# Altium schematic symbol library Schlib_ZG.SchLib: 31 symbols
Pins are listed as number, name and electrical type; pins without a type are passive.

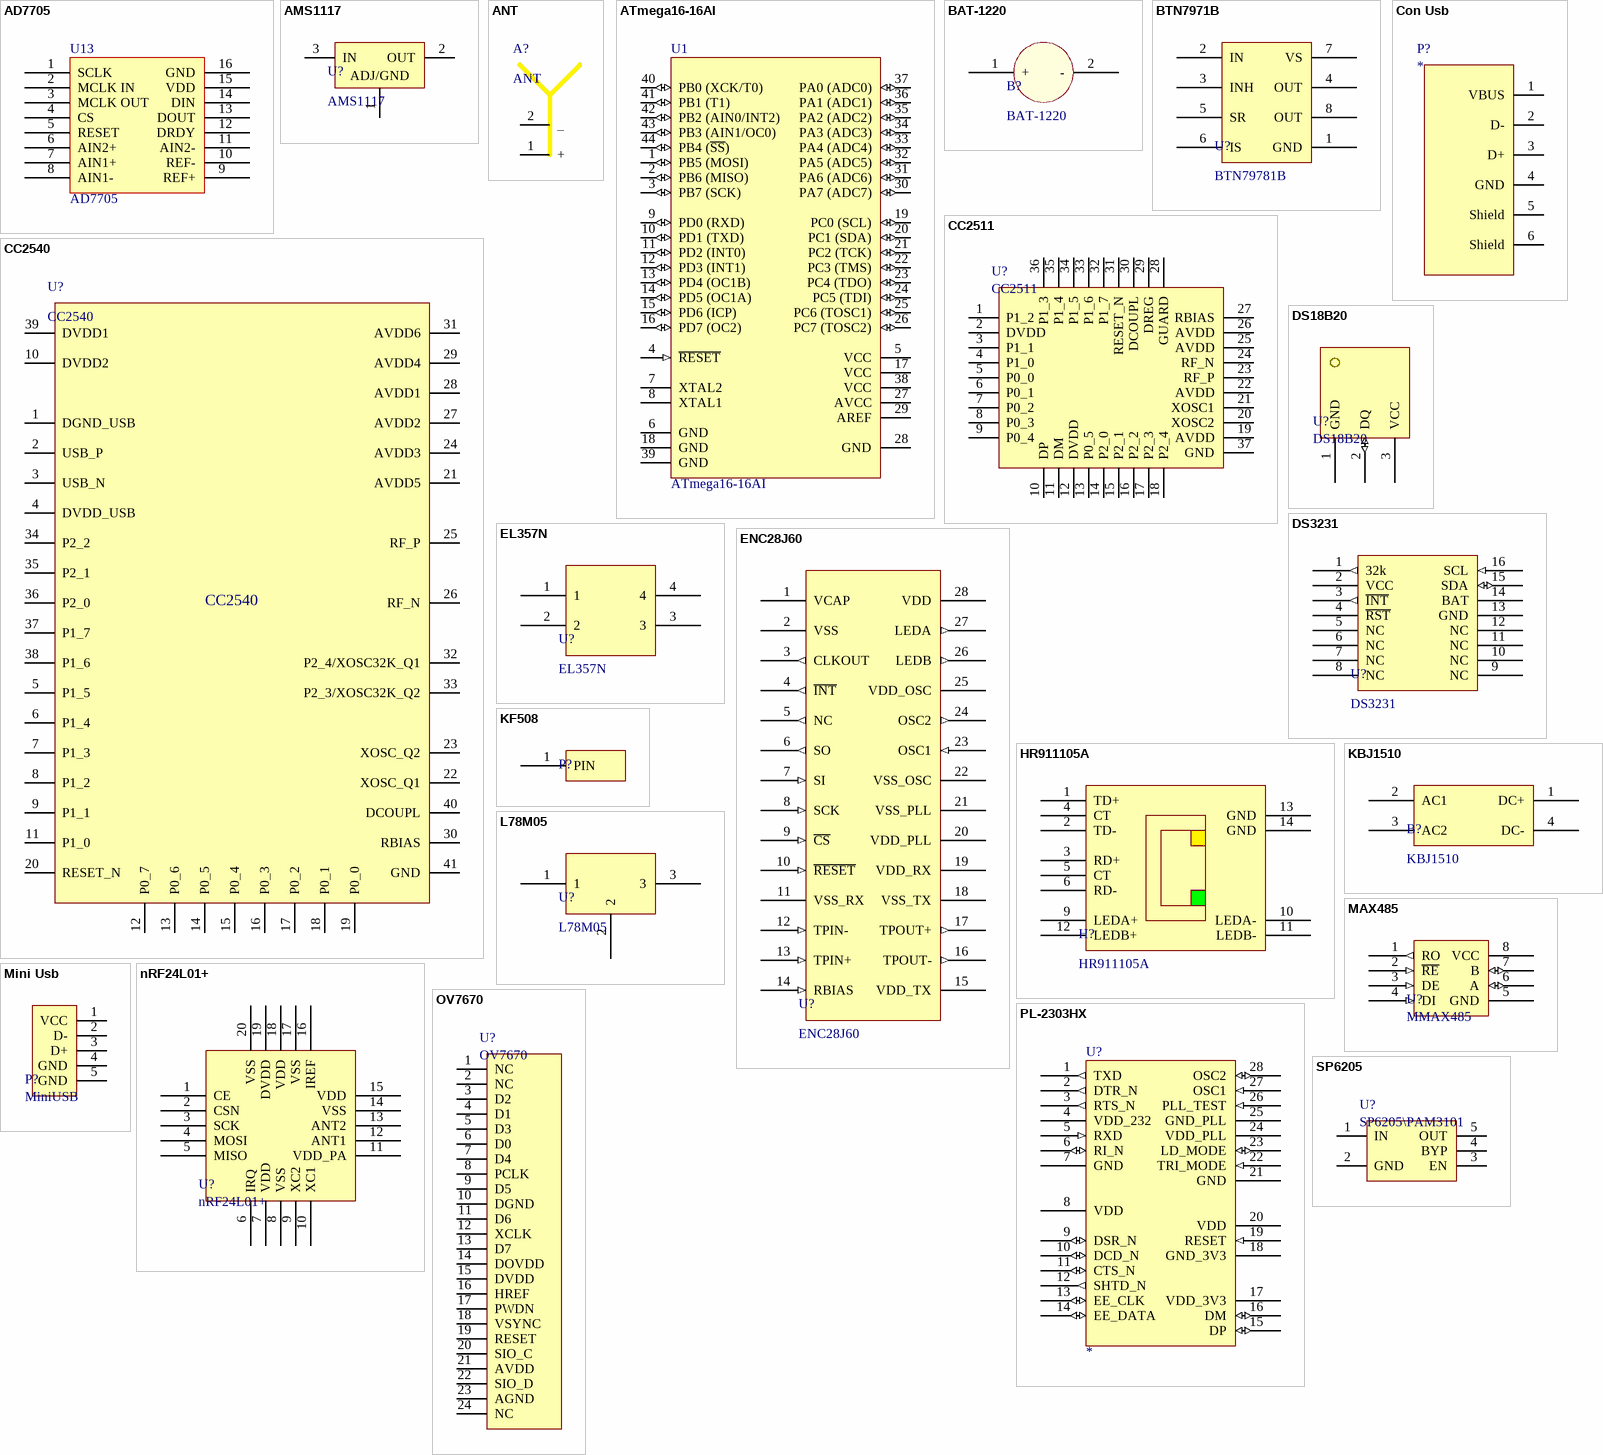
[diagram p0: symbols AD7705 to SP6205]

## AD7705
designator U13
footprint TSSOP16
pins: 1 SCLK, 2 MCLK IN, 3 MCLK OUT, 4 CS, 5 RESET, 6 AIN2+, 7 AIN1+, 8 AIN1-, 9 REF+, 10 REF-, 11 AIN2-, 12 DRDY, 13 DOUT, 14 DIN, 15 VDD, 16 GND

## AMS1117
designator U?
DC-DC Convertor 3.3V
footprint SOT223-4M (SOT223/SC73, 4-Leads, Body 6.5x3.5mm, Pitch 2.3mm, Lead Span 7mm, IPC Low Density)
pins: 1 (power), 2 OUT (power), 3 IN (power)
text: ADJ/GND

## ANT
designator A?  (no BOM)
PCB ANT
footprint IFANT
footprint MIFANT
pins: 1 +, 2 _

## ATmega16-16AI
designator U1
8-Bit AVR Microcontroller with 16K Bytes of In-System Programmable Flash Memory; Published: 17-Sep-2003; LatestRevisionDate: 13-Apr-2006; LatestRevisionNote: IPC-7351 Footprint Added.; DatasheetVersion: 2466E-AVR-10/02; PackageVersion: rev.B, Oct-2001; PackageReference: 44A; Publisher: Altium Limited; PackageDescription: 44-Pin Thin Quad Flat Pack 0.8 mm Pitch; ComponentLink1Description: Manufacturer Link; ComponentLink1URL: http://www.atmel.com; ComponentLink2Description: Datasheet; ComponentLink2URL: http://www.atmel.com/dyn/resources/prod_documents/doc2466.pdf
footprint 44A_N (Thin QFP, 44-Leads, Body 10x10mm, Pitch 0.8mm, IPC Medium Density)
footprint 44A_L (Thin QFP, 44-Leads, Body 10x10mm, Pitch 0.8mm, IPC High Density)
footprint 44A_M (Thin QFP, 44-Leads, Body 10x10mm, Pitch 0.8mm, IPC Low Density)
3D model ATMEGA16-44A (44-Pin Thin Quad Flat Pack 0.8 mm Pitch)
pins: 1 PB5 (MOSI) (io), 2 PB6 (MISO) (io), 3 PB7 (SCK) (io), 4 ~{RESET} (in), 5 VCC (power), 6 GND (power), 7 XTAL2, 8 XTAL1, 9 PD0 (RXD) (io), 10 PD1 (TXD) (io), 11 PD2 (INT0) (io), 12 PD3 (INT1) (io), 13 PD4 (OC1B) (io), 14 PD5 (OC1A) (io), 15 PD6 (ICP) (io), 16 PD7 (OC2) (io), 17 VCC (power), 18 GND (power), 19 PC0 (SCL) (io), 20 PC1 (SDA) (io), 21 PC2 (TCK) (io), 22 PC3 (TMS) (io), 23 PC4 (TDO) (io), 24 PC5 (TDI) (io), 25 PC6 (TOSC1) (io), 26 PC7 (TOSC2) (io), 27 AVCC (power), 28 GND (power), 29 AREF, 30 PA7 (ADC7) (io), 31 PA6 (ADC6) (io), 32 PA5 (ADC5) (io), 33 PA4 (ADC4) (io), 34 PA3 (ADC3) (io), 35 PA2 (ADC2) (io), 36 PA1 (ADC1) (io), 37 PA0 (ADC0) (io), 38 VCC (power), 39 GND (power), 40 PB0 (XCK/T0) (io), 41 PB1 (T1) (io), 42 PB2 (AIN0/INT2) (io), 43 PB3 (AIN1/OC0) (io), 44 PB4 (~{SS}) (io)

## BAT-1220
designator B?
Cylinder Batery 1220 3V
footprint BAT-1220
footprint BAT-2032
pins: 1 + (power), 2 - (power)

## BTN7971B
designator U?, comment BTN79781B
footprint PG-TO263-7-1
pins: 1 GND, 2 IN, 3 INH, 4 OUT, 5 SR, 6 IS, 7 VS, 8 OUT

## CC2511
designator U?
footprint QFN36
pins: 1 P1_2, 2 DVDD, 3 P1_1, 4 P1_0, 5 P0_0, 6 P0_1, 7 P0_2, 8 P0_3, 9 P0_4, 10 DP, 11 DM, 12 DVDD, 13 P0_5, 14 P2_0, 15 P2_1, 16 P2_2, 17 P2_3, 18 P2_4, 19 AVDD, 20 XOSC2, 21 XOSC1, 22 AVDD, 23 RF_P, 24 RF_N, 25 AVDD, 26 AVDD, 27 RBIAS, 28 GUARD, 29 DREG, 30 DCOUPL, 31 RESET_N, 32 P1_7, 33 P1_6, 34 P1_5, 35 P1_4, 36 P1_3, 37 GND

## CC2540
designator U?
footprint QFN40
pins: 1 DGND_USB (power), 2 USB_P (power), 3 USB_N (power), 4 DVDD_USB (power), 5 P1_5 (power), 6 P1_4 (power), 7 P1_3 (power), 8 P1_2 (power), 9 P1_1 (power), 10 DVDD2 (power), 11 P1_0 (power), 12 P0_7 (power), 13 P0_6 (power), 14 P0_5 (power), 15 P0_4 (power), 16 P0_3 (power), 17 P0_2 (power), 18 P0_1 (power), 19 P0_0 (power), 20 RESET_N (power), 21 AVDD5 (power), 22 XOSC_Q1 (power), 23 XOSC_Q2 (power), 24 AVDD3 (power), 25 RF_P (power), 26 RF_N (power), 27 AVDD2 (power), 28 AVDD1 (power), 29 AVDD4 (power), 30 RBIAS (power), 31 AVDD6 (power), 32 P2_4/XOSC32K_Q1 (power), 33 P2_3/XOSC32K_Q2 (power), 34 P2_2 (power), 35 P2_1 (power), 36 P2_0 (power), 37 P1_7 (power), 38 P1_6 (power), 39 DVDD1 (power), 40 DCOUPL (power), 41 GND
1 alternate drawing of the same symbol

## Con Usb
designator P?
footprint USB2.5-2V4A (Connector; USB1.1, Type A, Thru-Hole; 4 Position; Vertical)
pins: 1 VBUS (power), 2 D- (power), 3 D+ (power), 4 GND (power), 5 Shield (power), 6 Shield (power)

## DS18B20
designator U?
Temperatur detector
footprint TO92C
pins: 1 GND (power), 2 DQ (io), 3 VCC (power)

## DS3231
designator U?
footprint SOP16
pins: 1 32k (out), 2 VCC (power), 3 ~{INT} (out), 4 ~{RST}, 5 NC, 6 NC, 7 NC, 8 NC, 9 NC, 10 NC, 11 NC, 12 NC, 13 GND (power), 14 BAT (power), 15 SDA (io), 16 SCL (in)

## EL357N
designator U?
footprint SOP4-EL357N
pins: 1, 2, 3, 4

## ENC28J60
designator U?
Enthernet 10M
footprint CERDIP300W-28 (DIP, Ceramic, Window; 28 Leads; Row Spacing 7.62 mm; Pitch 2.54 mm)
footprint CERDIP600W-28 (CerDIP, Window; 28 Leads; Row Spacing 15.24 mm; Pitch 2.54 mm)
footprint SOIC300-28_M (28-Pin Small Outline Integrated Circuit 1.27 mm Pitch, IPC Low Density)
pins: 1 VCAP (power), 2 VSS (power), 3 CLKOUT (out), 4 ~{INT} (out), 5 NC (out), 6 SO (out), 7 SI (in), 8 SCK (in), 9 ~{CS} (in), 10 ~{RESET} (in), 11 VSS_RX (power), 12 TPIN- (in), 13 TPIN+ (in), 14 RBIAS (in), 15 VDD_TX (power), 16 TPOUT- (out), 17 TPOUT+ (out), 18 VSS_TX (power), 19 VDD_RX (power), 20 VDD_PLL (power), 21 VSS_PLL (power), 22 VSS_OSC (power), 23 OSC1 (in), 24 OSC2 (out), 25 VDD_OSC (power), 26 LEDB (out), 27 LEDA (out), 28 VDD (power)

## HR911105A
designator H?
RJ45 with Net transformer
footprint RJ45
pins: 1 TD+, 2 TD-, 3 RD+, 4 CT, 5 CT, 6 RD-, 9 LEDA+, 10 LEDA-, 11 LEDB-, 12 LEDB+, 13 GND, 14 GND

## KBJ1510
designator B?
Current Bridge 15A 1000V
footprint KBJ
pins: 1 DC+, 2 AC1, 3 AC2, 4 DC-

## KF508
designator P?, comment KF-Socket  (value not drawn)
Power Socket 20A
footprint KF508
footprint KF762
pins: 1 PIN

## L78M05
designator U?
footprint D2PAK_L78M05 (D2-PAK, 4-Leads, Body 8.8x10.4mm, Pitch 2.54mm, Lead Span 15.1mm, IPC High Density)
pins: 1, 2, 3

## MAX485
designator U?, comment MMAX485
MAX481/483/485/487/1487
footprint SOP127P636-8M (SOP, 8-Leads, Body 6x4.7mm, Pitch 1.27mm, IPC Low Density)
pins: 1 RO (out), 2 ~{RE} (in), 3 DE (in), 4 DI (in), 5 GND (power), 6 A (io), 7 B (io), 8 VCC (power)

## Mini Usb
designator P?, comment MiniUSB
footprint USB/SM0.8-6H5 (Connector; USB2.0, Type B, SM; 5 Position; Right Angle)
pins: 1 VCC, 2 D-, 3 D+, 4 GND, 5 GND, 6 SHD1 hidden to GND, 7 SHD2 hidden to GND, 8 SHD3 hidden to GND, 9 SHD4 hidden to GND

## nRF24L01+
designator U?
Single Chip 2.4GHz Transceiver
pins: 1 CE, 2 CSN, 3 SCK, 4 MOSI, 5 MISO, 6 IRQ, 7 VDD, 8 VSS, 9 XC2, 10 XC1, 11 VDD_PA, 12 ANT1, 13 ANT2, 14 VSS, 15 VDD, 16 IREF, 17 VSS, 18 VDD, 19 DVDD, 20 VSS

## OV7670
designator U?
footprint FFC/SM0.5-2H24 (Connector; FH12 Series; 24 Position; 0.5mm Spaced Bottom Contact)
pins: 1 NC, 2 NC, 3 D2, 4 D1, 5 D3, 6 D0, 7 D4, 8 PCLK, 9 D5, 10 DGND, 11 D6, 12 XCLK, 13 D7, 14 DOVDD, 15 DVDD, 16 HREF, 17 PWDN, 18 VSYNC, 19 RESET, 20 SIO_C, 21 AVDD, 22 SIO_D, 23 AGND, 24 NC, 25 hidden, 26 hidden

## PL-2303HX
designator U?
footprint SOP28
pins: 1 TXD (out), 2 DTR_N (out), 3 RTS_N (out), 4 VDD_232 (power), 5 RXD (in), 6 RI_N (io), 7 GND (power), 8 VDD, 9 DSR_N (io), 10 DCD_N (io), 11 CTS_N (io), 12 SHTD_N (out), 13 EE_CLK (io), 14 EE_DATA (io), 15 DP (io), 16 DM (io), 17 VDD_3V3 (power), 18 GND_3V3 (power), 19 RESET (in), 20 VDD (power), 21 GND (power), 22 TRI_MODE (in), 23 LD_MODE (io), 24 VDD_PLL, 25 GND_PLL (power), 26 PLL_TEST (in), 27 OSC1 (in), 28 OSC2 (io)

## SP6205
designator U?, comment SP6205\PAM3101
footprint SOT23-5AL (SOT23, 5-Leads, Body 2.9x1.6mm, Pitch 0.95mm, Lead Span 2.8mm, IPC High Density)
pins: 1 IN (power), 2 GND (power), 3 EN (power), 4 BYP (power), 5 OUT (power)

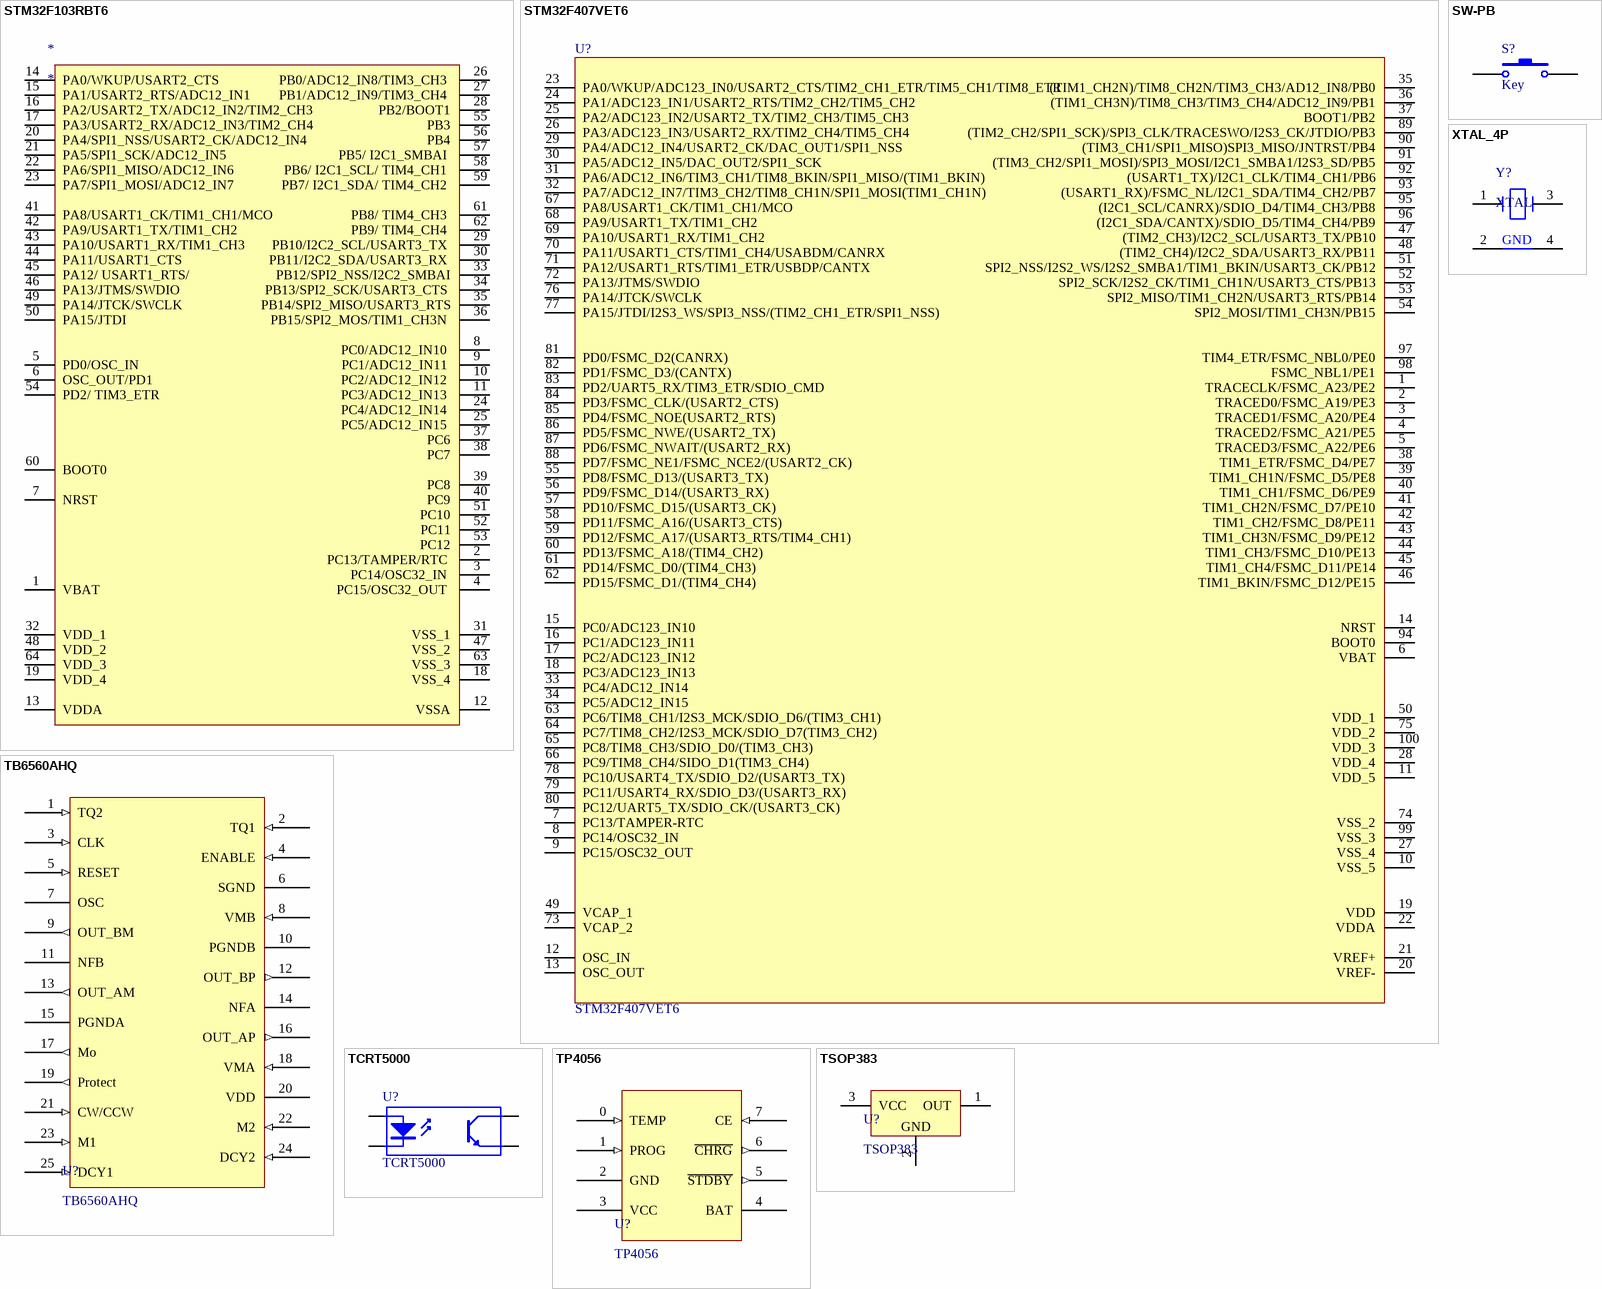
[diagram p1: symbols STM32F103RBT6 to XTAL_4P]

## STM32F103RBT6
designator *
footprint QFP64_M (STM32F103RBT6)
pins: 1 VBAT, 2 PC13/TAMPER/RTC , 3 PC14/OSC32_IN , 4 PC15/OSC32_OUT , 5 PD0/OSC_IN, 6 OSC_OUT/PD1, 7 NRST, 8 PC0/ADC12_IN10 , 9 PC1/ADC12_IN11 , 10 PC2/ADC12_IN12 , 11 PC3/ADC12_IN13 , 12 VSSA, 13 VDDA, 14 PA0/WKUP/USART2_CTS, 15 PA1/USART2_RTS/ADC12_IN1, 16 PA2/USART2_TX/ADC12_IN2/TIM2_CH3, 17 PA3/USART2_RX/ADC12_IN3/TIM2_CH4, 18 VSS_4, 19 VDD_4, 20 PA4/SPI1_NSS/USART2_CK/ADC12_IN4, 21 PA5/SPI1_SCK/ADC12_IN5, 22 PA6/SPI1_MISO/ADC12_IN6, 23 PA7/SPI1_MOSI/ADC12_IN7, 24 PC4/ADC12_IN14 , 25 PC5/ADC12_IN15 , 26 PB0/ADC12_IN8/TIM3_CH3 , 27 PB1/ADC12_IN9/TIM3_CH4 , 28 PB2/BOOT1, 29 PB10/I2C2_SCL/USART3_TX , 30 PB11/I2C2_SDA/USART3_RX , 31 VSS_1, 32 VDD_1, 33 PB12/SPI2_NSS/I2C2_SMBAI, 34 PB13/SPI2_SCK/USART3_CTS , 35 PB14/SPI2_MISO/USART3_RTS, 36 PB15/SPI2_MOS/TIM1_CH3N , 37 PC6, 38 PC7, 39 PC8, 40 PC9, 41 PA8/USART1_CK/TIM1_CH1/MCO, 42 PA9/USART1_TX/TIM1_CH2, 43 PA10/USART1_RX/TIM1_CH3, 44 PA11/USART1_CTS, 45 PA12/ USART1_RTS/, 46 PA13/JTMS/SWDIO, 47 VSS_2, 48 VDD_2, 49 PA14/JTCK/SWCLK, 50 PA15/JTDI, 51 PC10, 52 PC11, 53 PC12, 54 PD2/ TIM3_ETR , 55 PB3, 56 PB4, 57 PB5/ I2C1_SMBAI , 58 PB6/ I2C1_SCL/ TIM4_CH1 , 59 PB7/ I2C1_SDA/ TIM4_CH2 , 60 BOOT0, 61 PB8/ TIM4_CH3 , 62 PB9/ TIM4_CH4 , 63 VSS_3, 64 VDD_3

## STM32F407VET6
designator U?
Arm-Cortex M3 MCU with float inst.
footprint TQFP-100
pins: 1 TRACECLK/FSMC_A23/PE2, 2 TRACED0/FSMC_A19/PE3, 3 TRACED1/FSMC_A20/PE4, 4 TRACED2/FSMC_A21/PE5, 5 TRACED3/FSMC_A22/PE6, 6 VBAT, 7 PC13/TAMPER-RTC, 8 PC14/OSC32_IN, 9 PC15/OSC32_OUT, 10 VSS_5, 11 VDD_5, 12 OSC_IN, 13 OSC_OUT, 14 NRST, 15 PC0/ADC123_IN10, 16 PC1/ADC123_IN11, 17 PC2/ADC123_IN12, 18 PC3/ADC123_IN13, 19 VDD, 20 VREF-, 21 VREF+, 22 VDDA, 23 PA0/WKUP/ADC123_IN0/USART2_CTS/TIM2_CH1_ETR/TIM5_CH1/TIM8_ETR, 24 PA1/ADC123_IN1/USART2_RTS/TIM2_CH2/TIM5_CH2, 25 PA2/ADC123_IN2/USART2_TX/TIM2_CH3/TIM5_CH3, 26 PA3/ADC123_IN3/USART2_RX/TIM2_CH4/TIM5_CH4, 27 VSS_4, 28 VDD_4, 29 PA4/ADC12_IN4/USART2_CK/DAC_OUT1/SPI1_NSS, 30 PA5/ADC12_IN5/DAC_OUT2/SPI1_SCK, 31 PA6/ADC12_IN6/TIM3_CH1/TIM8_BKIN/SPI1_MISO/(TIM1_BKIN), 32 PA7/ADC12_IN7/TIM3_CH2/TIM8_CH1N/SPI1_MOSI(TIM1_CH1N), 33 PC4/ADC12_IN14, 34 PC5/ADC12_IN15, 35 (TIM1_CH2N)/TIM8_CH2N/TIM3_CH3/AD12_IN8/PB0, 36 (TIM1_CH3N)/TIM8_CH3/TIM3_CH4/ADC12_IN9/PB1, 37 BOOT1/PB2, 38 TIM1_ETR/FSMC_D4/PE7, 39 TIM1_CH1N/FSMC_D5/PE8, 40 TIM1_CH1/FSMC_D6/PE9, 41 TIM1_CH2N/FSMC_D7/PE10, 42 TIM1_CH2/FSMC_D8/PE11, 43 TIM1_CH3N/FSMC_D9/PE12, 44 TIM1_CH3/FSMC_D10/PE13, 45 TIM1_CH4/FSMC_D11/PE14, 46 TIM1_BKIN/FSMC_D12/PE15, 47 (TIM2_CH3)/I2C2_SCL/USART3_TX/PB10, 48 (TIM2_CH4)/I2C2_SDA/USART3_RX/PB11, 49 VCAP_1, 50 VDD_1, 51 SPI2_NSS/I2S2_WS/I2S2_SMBA1/TIM1_BKIN/USART3_CK/PB12, 52 SPI2_SCK/I2S2_CK/TIM1_CH1N/USART3_CTS/PB13, 53 SPI2_MISO/TIM1_CH2N/USART3_RTS/PB14, 54 SPI2_MOSI/TIM1_CH3N/PB15, 55 PD8/FSMC_D13/(USART3_TX), 56 PD9/FSMC_D14/(USART3_RX), 57 PD10/FSMC_D15/(USART3_CK), 58 PD11/FSMC_A16/(USART3_CTS), 59 PD12/FSMC_A17/(USART3_RTS/TIM4_CH1), 60 PD13/FSMC_A18/(TIM4_CH2), 61 PD14/FSMC_D0/(TIM4_CH3), 62 PD15/FSMC_D1/(TIM4_CH4), 63 PC6/TIM8_CH1/I2S3_MCK/SDIO_D6/(TIM3_CH1), 64 PC7/TIM8_CH2/I2S3_MCK/SDIO_D7(TIM3_CH2), 65 PC8/TIM8_CH3/SDIO_D0/(TIM3_CH3), 66 PC9/TIM8_CH4/SIDO_D1(TIM3_CH4), 67 PA8/USART1_CK/TIM1_CH1/MCO, 68 PA9/USART1_TX/TIM1_CH2, 69 PA10/USART1_RX/TIM1_CH2, 70 PA11/USART1_CTS/TIM1_CH4/USABDM/CANRX, 71 PA12/USART1_RTS/TIM1_ETR/USBDP/CANTX, 72 PA13/JTMS/SWDIO, 73 VCAP_2, 74 VSS_2, 75 VDD_2, 76 PA14/JTCK/SWCLK, 77 PA15/JTDI/I2S3_WS/SPI3_NSS/(TIM2_CH1_ETR/SPI1_NSS), 78 PC10/USART4_TX/SDIO_D2/(USART3_TX), 79 PC11/USART4_RX/SDIO_D3/(USART3_RX), 80 PC12/UART5_TX/SDIO_CK/(USART3_CK), 81 PD0/FSMC_D2(CANRX), 82 PD1/FSMC_D3/(CANTX), 83 PD2/UART5_RX/TIM3_ETR/SDIO_CMD, 84 PD3/FSMC_CLK/(USART2_CTS), 85 PD4/FSMC_NOE(USART2_RTS), 86 PD5/FSMC_NWE/(USART2_TX), 87 PD6/FSMC_NWAIT/(USART2_RX), 88 PD7/FSMC_NE1/FSMC_NCE2/(USART2_CK), 89 (TIM2_CH2/SPI1_SCK)/SPI3_CLK/TRACESWO/I2S3_CK/JTDIO/PB3, 90 (TIM3_CH1/SPI1_MISO)SPI3_MISO/JNTRST/PB4, 91 (TIM3_CH2/SPI1_MOSI)/SPI3_MOSI/I2C1_SMBA1/I2S3_SD/PB5, 92 (USART1_TX)/I2C1_CLK/TIM4_CH1/PB6, 93 (USART1_RX)/FSMC_NL/I2C1_SDA/TIM4_CH2/PB7, 94 BOOT0, 95 (I2C1_SCL/CANRX)/SDIO_D4/TIM4_CH3/PB8, 96 (I2C1_SDA/CANTX)/SDIO_D5/TIM4_CH4/PB9, 97 TIM4_ETR/FSMC_NBL0/PE0, 98 FSMC_NBL1/PE1, 99 VSS_3, 100 VDD_3

## SW-PB
designator S?, comment Key
Switch; Published: 24-Mar-1999; LatestRevisionDate: 17-Jul-2002; LatestRevisionNote: Re-released for DXP Platform.; PackageReference: SPST-2; Publisher: Altium Limited; PackageDescription: Switch; 2 Leads
footprint SPST-2 (Switch; 2 Leads)
footprint SW_3x6_SMT
footprint SW_6x6_4pin
pins: 1, 2

## TB6560AHQ
designator U?
Step motor driver 3A
footprint ZIP-T25 (In-Line; 25 Zig-Zag Leads; Body 36 x 5mm; Pitch 1.27mm)
pins: 1 TQ2 (in), 2 TQ1 (in), 3 CLK (in), 4 ENABLE (in), 5 RESET (in), 6 SGND (power), 7 OSC, 8 VMB (in), 9 OUT_BM (out), 10 PGNDB (power), 11 NFB, 12 OUT_BP (out), 13 OUT_AM (out), 14 NFA, 15 PGNDA (power), 16 OUT_AP (out), 17 Mo (out), 18 VMA (in), 19 Protect (out), 20 VDD (power), 21 CW/CCW (in), 22 M2 (in), 23 M1 (in), 24 DCY2 (in), 25 DCY1 (in)

## TCRT5000
designator U?
4-Pin Phototransistor Optocoupler; Published: 24-Mar-1999; LatestRevisionDate: 04-Mar-2005; LatestRevisionNote: Sch pins 3 & 4 Swapped.; DatasheetVersion: Nov-2003; PackageReference: DIP-4; Publisher: Altium Limited
footprint DIP-4 (DIP; 4 Leads; Row Spacing 7.62 mm; Pitch 2.54 mm)
footprint TCRT5000
pins: 1 A "Anode", 2 K "Cathode", 3 E "Emitter", 4 C "Collector"

## TP4056
designator U?
LI-Battery charger
footprint SOP8 (8 pin sop); pin to pad 0>1 1>2 2>3 3>4 4>5 5>6 6>7 7>8
pins: 0 TEMP (in), 1 PROG (in), 2 GND (power), 3 VCC (power), 4 BAT (power), 5 ~{STDBY} (out), 6 ~{CHRG} (out), 7 CE (in)

## TSOP383
designator U?
38khz 红外线接收头
footprint TO92C
pins: 1 OUT (power), 2 (power), 3 VCC (power)
text: GND

## XTAL_4P
designator Y?, comment XTAL
footprint CFPX-5 (Quartz Crystal, SM; Body 3.4 x 2.7 mm (LxW max))
pins: 1, 2, 3, 4
text: GND